# Altium schematic symbol library OPA1632.Schlib: 1 symbol
Pins are listed as number, name and electrical type; pins without a type are passive.

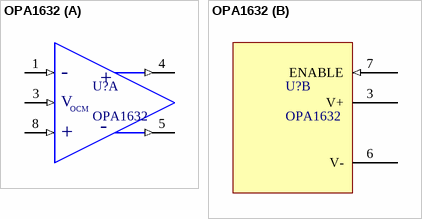
[diagram p0: symbol OPA1632]

## OPA1632
designator U?
High-Performance, Fully-Differential  AUDIO OPERATIONAL AMPLIFIER
part A pins: 1 IN- (in), 3 Vocm (in), 4 OUT (out), 5 OUT (out), 8 IN+ (in)
part B pins: 3 V+ (power), 6 V- (power), 7 ENABLE (in)
part A text: -; +; V; OCM